# EAGLE library part NHD-C12832A1Z-FSW-FBW-3V3 (library keves)
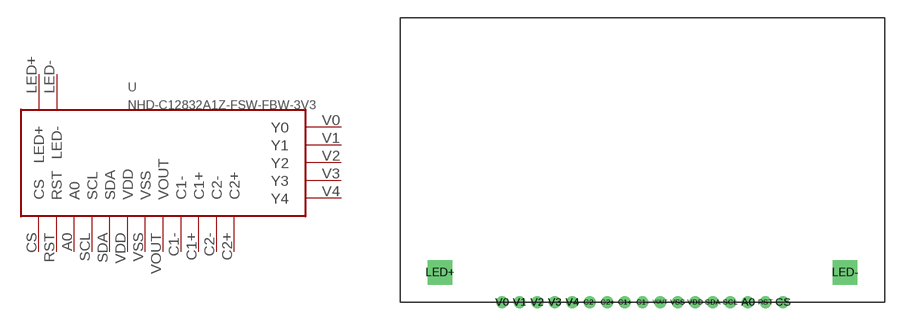
[diagram p2: symbol with the pads of NHD-C12832A1Z-FSW-FBW-3V3; footprint NHD-C12832A1Z-FSW-FBW-3V3]

Designator prefix -

## NHD-C12832A1Z-FSW-FBW-3V3  [NHD-C12832A1Z-FSW-FBW-3V3]
A0  A0
C1+  C1+
C1-  C1-
C2+  C2+
C2-  C2-
CS  CS
LED+  LED+
LED-  LED-
RST  RST
SCL  SCL
SDA  SDA
V0  Y0
V1  Y1
V2  Y2
V3  Y3
V4  Y4
VDD  VDD
VOUT  VOUT
VSS  VSS

## Footprint NHD-C12832A1Z-FSW-FBW-3V3 (pad centres in mm)
drill 0.508: A0 9,0; C1+ -1.5,0; C1- 0,0; C2+ -3,0; C2- -4.5,0; CS 12,0; RST 10.5,0; SCL 7.5,0; SDA 6,0; V0 -12,0; V1 -10.5,0; V2 -9,0; V3 -7.5,0; V4 -6,0; VDD 4.5,0; VOUT 1.5,0; VSS 3,0
drill 1.4 square: LED+ -17.3,2.55; LED- 17.3,2.55